# Altium integrated library NSC Video Amplifier.IntLib: 19 symbols
Pins are listed as number, name and electrical type; pins without a type are passive.

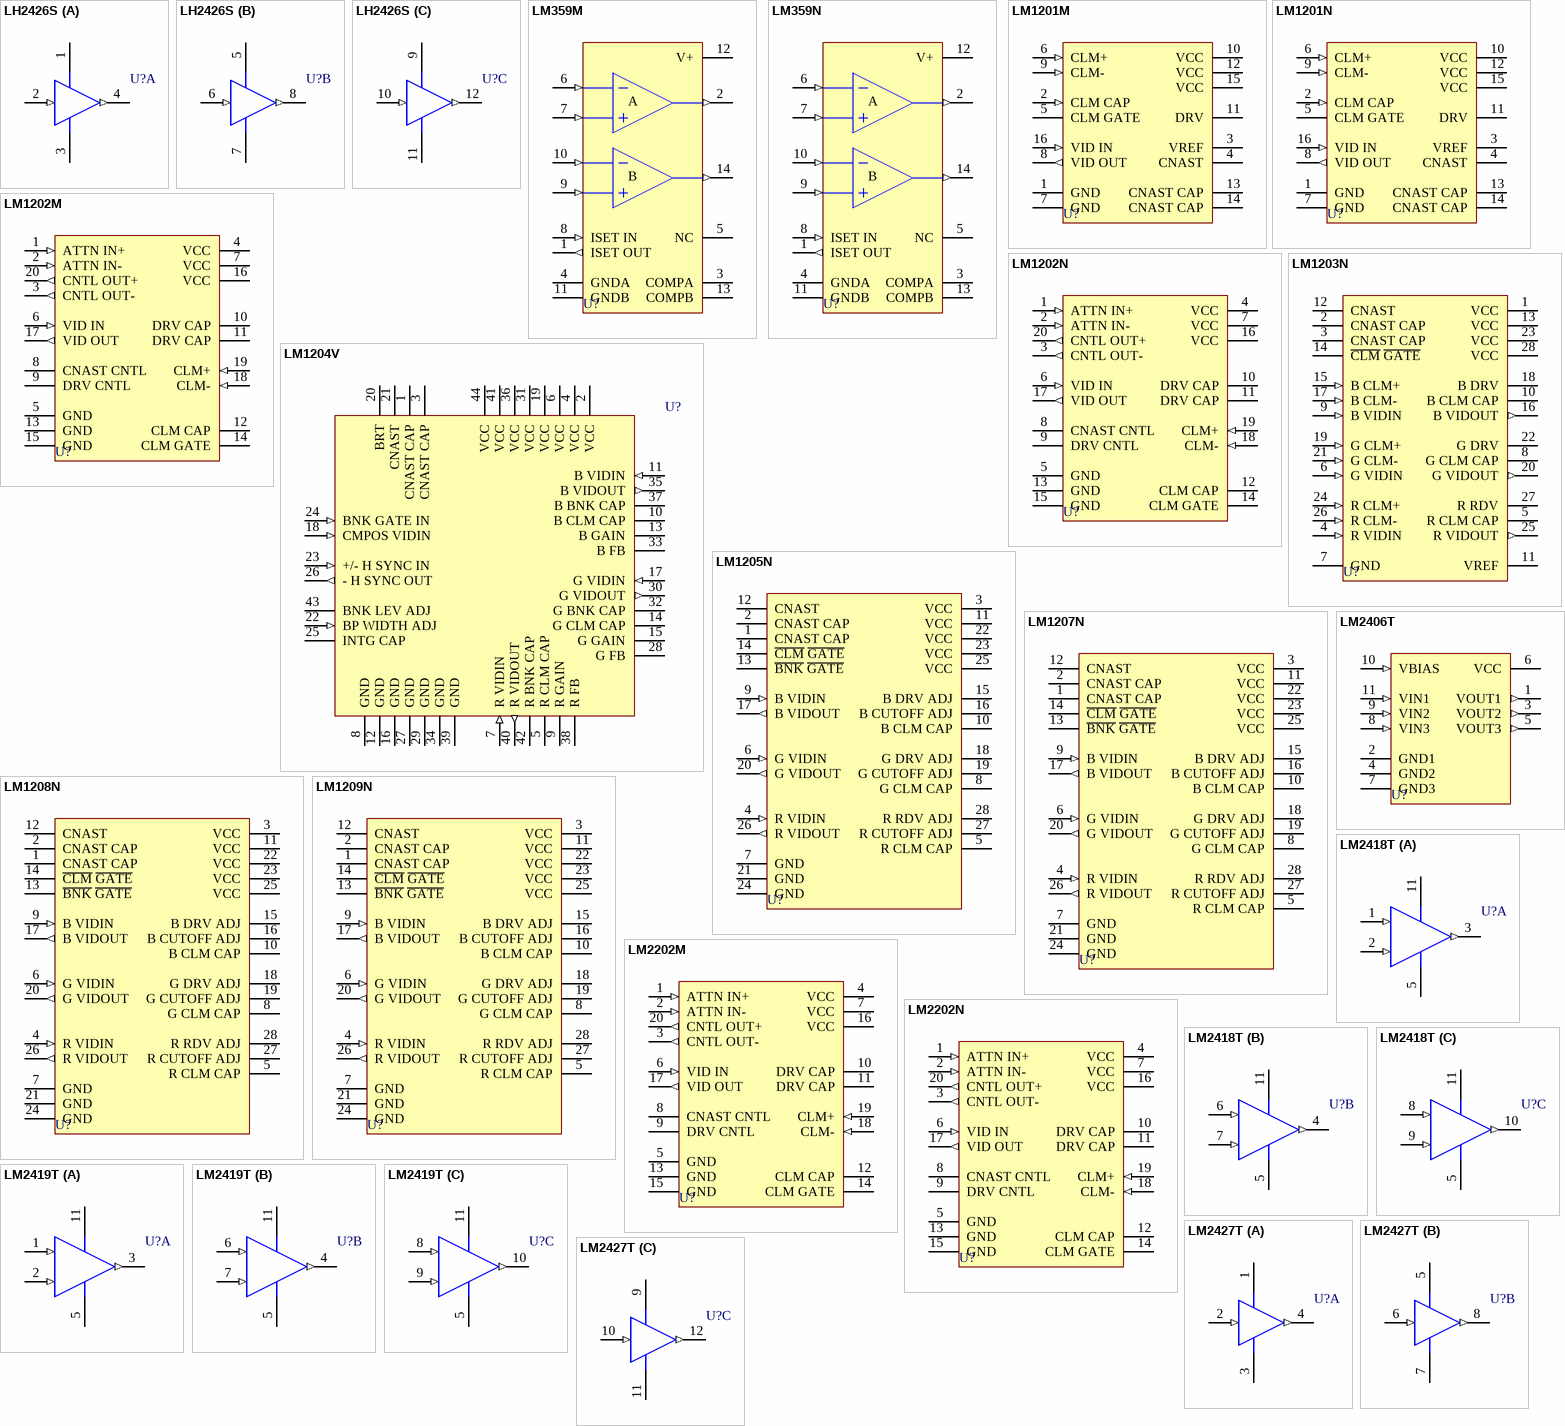
[diagram p0: symbols LH2426S to LM2427T]

## LH2426S
designator U?
Triple 80MHz CRT Driver; Published: 15-Apr-2002; DatasheetVersion: Aug-1990; PackageVersion: Aug-1995; PackageReference: HY12B; Publisher: Altium Limited; PackageDescription: TO, Thru-Hole, Vertical, Heatsink Mounted; 12 In-Line Leads; Pitch 2.54 mm; ComponentLink1Description: Manufacturer Link; ComponentLink1URL: http://www.national.com/
footprint HY12B (TO, Thru-Hole, Vertical, Heatsink Mounted; 12 In-Line Leads; Pitch 2.54 mm)
part A pins: 1 V+ (power), 2 IN (in), 3 GND (power), 4 OUT (out)
part B pins: 5 V+ (power), 6 IN (in), 7 GND (power), 8 OUT (out)
part C pins: 9 V+ (power), 10 IN (in), 11 GND (power), 12 OUT (out)

## LM359M
designator U?
Dual, High-Speed, Programmable, Current Mode (Norton) Amplifier; Note: Pin 5 is N.C.; Published: 15-Apr-2002; LatestRevisionDate: 13-Apr-2006; LatestRevisionNote: IPC-7351 Footprint Added.; DatasheetVersion: Oct-1998; PackageVersion: 2000; PackageReference: M14A; Publisher: Altium Limited; PackageDescription: 14-Pin Small Outline Integrated Circuit 1.27 mm Pitch; Code_IPC: SOIC127P600-14; ComponentLink1Description: Manufacturer Link; ComponentLink1URL: http://www.national.com/; ComponentLink2Description: Datasheet; ComponentLink2URL: http://www.national.com/ds.cgi/LM/LM359.pdf; ComponentLink3Description: URL Link1; ComponentLink3URL: http://www.national.com/pf/LM/LM359.html
footprint M14A_N (SOIC, 14-Leads, Body 8.6x3.9mm, Pitch 1.27mm, IPC Medium Density)
footprint M14A_L (SOIC, 14-Leads, Body 8.6x3.9mm, Pitch 1.27mm, IPC High Density)
footprint M14A_M (SOIC, 14-Leads, Body 8.6x3.9mm, Pitch 1.27mm, IPC Low Density)
3D model M14A (14-Pin Small Outline Integrated Circuit 1.27 mm Pitch)
pins: 1 ISET OUT (out), 2 OUT (out), 3 COMPA, 4 GNDA (power), 5 NC, 6 IN- (in), 7 IN+ (in), 8 ISET IN (in), 9 IN+ (in), 10 IN- (in), 11 GNDB (power), 12 V+ (power), 13 COMPB, 14 OUT (out)
text: A; B

## LM359N
designator U?
Dual, High-Speed, Programmable, Current Mode (Norton) Amplifier; Note: Pin 5 is N.C.; Published: 15-Apr-2002; LatestRevisionDate: 06-Jun-2005; LatestRevisionNote: Stylized 3D Model Added.; DatasheetVersion: Oct-1998; PackageVersion: 2000; PackageReference: N14A; Publisher: Altium Limited; PackageDescription: DIP; 14 Leads; Row Spacing 7.62 mm; Pitch 2.54 mm; ComponentLink1Description: Manufacturer Link; ComponentLink1URL: http://www.national.com/; ComponentLink2Description: Datasheet; ComponentLink2URL: http://www.national.com/ds.cgi/LM/LM359.pdf; ComponentLink3Description: URL Link1; ComponentLink3URL: http://www.national.com/pf/LM/LM359.html
footprint N14A (DIP; 14 Leads; Row Spacing 7.62 mm; Pitch 2.54 mm)
3D model N14A (DIP; 14 Leads; Row Spacing 7.62 mm; Pitch 2.54 mm)
pins: 1 ISET OUT (out), 2 OUT (out), 3 COMPA, 4 GNDA (power), 5 NC, 6 IN- (in), 7 IN+ (in), 8 ISET IN (in), 9 IN+ (in), 10 IN- (in), 11 GNDB (power), 12 V+ (power), 13 COMPB, 14 OUT (out)
text: A; B

## LM1201M
designator U?
Video Amplifier System; ComponentAvailability: Obsolete; Published: 15-Apr-2002; LatestRevisionDate: 13-Apr-2006; LatestRevisionNote: IPC-7351 Footprint Added.; DatasheetVersion: Jan-1995; PackageVersion: 2000; PackageReference: M16A; Publisher: Altium Limited; PackageDescription: 16-Pin Small Outline Integrated Circuit 1.27 mm Pitch; Code_IPC: SOIC127P600-16; ComponentLink1Description: Manufacturer Link; ComponentLink1URL: http://www.national.com/; ComponentLink2Description: Datasheet; ComponentLink2URL: http://www.national.com/ds.cgi/LM/LM1201.pdf; ComponentLink3Description: Discontinuation Notice; ComponentLink3URL: http://www.national.com/obs/obsolescence.txt; ComponentLink4Description: URL Link1; ComponentLink4URL: http://www.national.com/pf/LM/LM1201.html
footprint M16A_N (SOIC, 16-Leads, Body 9.9x3.9mm, Pitch 1.27mm, IPC Medium Density)
footprint M16A_L (SOIC, 16-Leads, Body 9.9x3.9mm, Pitch 1.27mm, IPC High Density)
footprint M16A_M (SOIC, 16-Leads, Body 9.9x3.9mm, Pitch 1.27mm, IPC Low Density)
3D model M16A (16-Pin Small Outline Integrated Circuit 1.27 mm Pitch)
pins: 1 GND (power), 2 CLM CAP (in), 3 VREF, 4 CNAST, 5 CLM GATE, 6 CLM+ (in), 7 GND (power), 8 VID OUT (out), 9 CLM- (in), 10 VCC (power), 11 DRV, 12 VCC (power), 13 CNAST CAP, 14 CNAST CAP, 15 VCC (power), 16 VID IN (in)

## LM1201N
designator U?
Video Amplifier System; ComponentAvailability: Obsolete; Published: 15-Apr-2002; LatestRevisionDate: 06-Jun-2005; LatestRevisionNote: Stylized 3D Model Added.; DatasheetVersion: Jan-1995; PackageVersion: 2000; PackageReference: N16E; Publisher: Altium Limited; PackageDescription: DIP; 16 Leads; Row Spacing 7.62 mm; Pitch 2.54 mm; ComponentLink1Description: Manufacturer Link; ComponentLink1URL: http://www.national.com/; ComponentLink2Description: Datasheet; ComponentLink2URL: http://www.national.com/ds.cgi/LM/LM1201.pdf; ComponentLink3Description: Discontinuation Notice; ComponentLink3URL: http://www.national.com/obs/obsolescence.txt; ComponentLink4Description: URL Link1; ComponentLink4URL: http://www.national.com/pf/LM/LM1201.html
footprint N16E (DIP; 16 Leads; Row Spacing 7.62 mm; Pitch 2.54 mm)
3D model N16E (DIP; 16 Leads; Row Spacing 7.62 mm; Pitch 2.54 mm)
pins: 1 GND (power), 2 CLM CAP (in), 3 VREF, 4 CNAST, 5 CLM GATE, 6 CLM+ (in), 7 GND (power), 8 VID OUT (out), 9 CLM- (in), 10 VCC (power), 11 DRV, 12 VCC (power), 13 CNAST CAP, 14 CNAST CAP, 15 VCC (power), 16 VID IN (in)

## LM1202M
designator U?
230MHz Video Amplifier System; Published: 15-Apr-2002; LatestRevisionDate: 13-Apr-2006; LatestRevisionNote: IPC-7351 Footprint Added.; DatasheetVersion: Dec-1995; PackageVersion: 2000; PackageReference: M20B; Publisher: Altium Limited; PackageDescription: 20-Pin Small Outline Integrated Circuit 1.27 mm Pitch; Code_JEDEC: MS-013-AC; Code_IPC: SOIC127P1030-20; ComponentLink1Description: Manufacturer Link; ComponentLink1URL: http://www.national.com/; ComponentLink2Description: Datasheet; ComponentLink2URL: http://www.national.com/ds.cgi/LM/LM1202.pdf; ComponentLink3Description: URL Link1; ComponentLink3URL: http://www.national.com/pf/LM/LM1202.html
footprint M20B_N (SOIC, 20-Leads, Body 12.8x7.5mm, Pitch 1.27mm, IPC Medium Density)
footprint M20B_L (SOIC, 20-Leads, Body 12.8x7.5mm, Pitch 1.27mm, IPC High Density)
footprint M20B_M (SOIC, 20-Leads, Body 12.8x7.5mm, Pitch 1.27mm, IPC Low Density)
3D model M20B (20-Pin Small Outline Integrated Circuit 1.27 mm Pitch)
pins: 1 ATTN IN+ (in), 2 ATTN IN- (in), 3 CNTL OUT- (out), 4 VCC (power), 5 GND (power), 6 VID IN (in), 7 VCC (power), 8 CNAST CNTL, 9 DRV CNTL, 10 DRV CAP, 11 DRV CAP, 12 CLM CAP, 13 GND (power), 14 CLM GATE, 15 GND (power), 16 VCC (power), 17 VID OUT (out), 18 CLM- (in), 19 CLM+ (in), 20 CNTL OUT+ (out)

## LM1202N
designator U?
230MHz Video Amplifier System; Published: 15-Apr-2002; LatestRevisionDate: 06-Jun-2005; LatestRevisionNote: Stylized 3D Model Added.; DatasheetVersion: Dec-1995; PackageVersion: 2000; PackageReference: N20A; Publisher: Altium Limited; PackageDescription: DIP; 20 Leads; Row Spacing 7.62 mm; Pitch 2.54 mm; Code_JEDEC: MS-001-AD; ComponentLink1Description: Manufacturer Link; ComponentLink1URL: http://www.national.com/; ComponentLink2Description: Datasheet; ComponentLink2URL: http://www.national.com/ds.cgi/LM/LM1202.pdf; ComponentLink3Description: URL Link1; ComponentLink3URL: http://www.national.com/pf/LM/LM1202.html
footprint N20A (DIP; 20 Leads; Row Spacing 7.62 mm; Pitch 2.54 mm)
3D model N20A (DIP; 20 Leads; Row Spacing 7.62 mm; Pitch 2.54 mm)
pins: 1 ATTN IN+ (in), 2 ATTN IN- (in), 3 CNTL OUT- (out), 4 VCC (power), 5 GND (power), 6 VID IN (in), 7 VCC (power), 8 CNAST CNTL, 9 DRV CNTL, 10 DRV CAP, 11 DRV CAP, 12 CLM CAP, 13 GND (power), 14 CLM GATE, 15 GND (power), 16 VCC (power), 17 VID OUT (out), 18 CLM- (in), 19 CLM+ (in), 20 CNTL OUT+ (out)

## LM1203N
designator U?
RGB Video Amplifier System; ComponentAvailability: Obsolete; Published: 15-Apr-2002; LatestRevisionDate: 06-Jun-2005; LatestRevisionNote: Stylized 3D Model Added.; DatasheetVersion: Jan-1996; PackageVersion: 2000; PackageReference: NA28F; Publisher: Altium Limited; PackageDescription: DIP; 28 Leads; Row Spacing 15.24 mm; Pitch 2.54 mm; ComponentLink1Description: Manufacturer Link; ComponentLink1URL: http://www.national.com/; ComponentLink2Description: Datasheet; ComponentLink2URL: http://www.national.com/ds.cgi/LM/LM1203.pdf; ComponentLink3Description: Discontinuation Notice; ComponentLink3URL: http://www.national.com/obs/obsolescence.txt; ComponentLink4Description: URL Link1; ComponentLink4URL: http://www.national.com/pf/LM/LM1203.html
footprint NA28F (DIP; 28 Leads; Row Spacing 15.24 mm; Pitch 2.54 mm)
3D model NA28F (DIP; 28 Leads; Row Spacing 15.24 mm; Pitch 2.54 mm)
pins: 1 VCC (power), 2 CNAST CAP, 3 CNAST CAP, 4 R VIDIN (in), 5 R CLM CAP, 6 G VIDIN (in), 7 GND (power), 8 G CLM CAP, 9 B VIDIN (in), 10 B CLM CAP, 11 VREF, 12 CNAST, 13 VCC (power), 14 ~{CLM} ~{GATE}, 15 B CLM+ (in), 16 B VIDOUT (out), 17 B CLM- (in), 18 B DRV, 19 G CLM+ (in), 20 G VIDOUT (out), 21 G CLM- (in), 22 G DRV, 23 VCC (power), 24 R CLM+ (in), 25 R VIDOUT (out), 26 R CLM- (in), 27 R RDV, 28 VCC (power)

## LM1204V
designator U?
150MHz RGB Video Amplifier System; ComponentAvailability: Obsolete; Published: 15-Apr-2002; LatestRevisionDate: 13-Apr-2006; LatestRevisionNote: IPC-7351 Footprint Added.; DatasheetVersion: Dec-1994; PackageVersion: 2000; PackageReference: V44A; Publisher: Altium Limited; PackageDescription: 44-Pin Leaded Chip Carrier 1.27 mm Pitch; Code_IPC: PLCC-44; ComponentLink1Description: Manufacturer Link; ComponentLink1URL: http://www.national.com/; ComponentLink2Description: Datasheet; ComponentLink2URL: http://www.national.com/ds.cgi/LM/LM1204.pdf; ComponentLink3Description: Discontinuation Notice; ComponentLink3URL: http://www.national.com/obs/obsolescence.txt; ComponentLink4Description: URL Link1; ComponentLink4URL: http://www.national.com/pf/LM/LM1204.html
footprint V44A_N (Leaded Chip Carrier, 44-Leads, Body 16.6x16.6mm, Pitch 1.27mm, IPC Medium Density)
footprint V44A_L (Leaded Chip Carrier, 44-Leads, Body 16.6x16.6mm, Pitch 1.27mm, IPC High Density)
footprint V44A_M (Leaded Chip Carrier, 44-Leads, Body 16.6x16.6mm, Pitch 1.27mm, IPC Low Density)
3D model LM1204-V44A (44-Pin Leaded Chip Carrier 1.27 mm Pitch)
pins: 1 CNAST CAP, 2 VCC (power), 3 CNAST CAP, 4 VCC (power), 5 R CLM CAP, 6 VCC (power), 7 R VIDIN (in), 8 GND (power), 9 R GAIN, 10 B CLM CAP, 11 B VIDIN (in), 12 GND (power), 13 B GAIN, 14 G CLM CAP, 15 G GAIN, 16 GND (power), 17 G VIDIN (in), 18 CMPOS VIDIN (in), 19 VCC (power), 20 BRT, 21 CNAST, 22 BP WIDTH ADJ (in), 23 +/- H SYNC IN (in), 24 BNK GATE IN (in), 25 INTG CAP, 26 - H SYNC OUT (out), 27 GND (power), 28 G FB, 29 GND (power), 30 G VIDOUT (out), 31 VCC (power), 32 G BNK CAP, 33 B FB, 34 GND (power), 35 B VIDOUT (out), 36 VCC (power), 37 B BNK CAP, 38 R FB, 39 GND (power), 40 R VIDOUT (out), 41 VCC (power), 42 R BNK CAP, 43 BNK LEV ADJ, 44 VCC (power)

## LM1205N
designator U?
130MHz RGB Video Amplifier System with Blanking; ComponentAvailability: Obsolete; Published: 15-Apr-2002; LatestRevisionDate: 06-Jun-2005; LatestRevisionNote: Stylized 3D Model Added.; DatasheetVersion: Jan-1996; PackageVersion: 2000; PackageReference: N28B; Publisher: Altium Limited; PackageDescription: DIP; 28 Leads; Row Spacing 15.24 mm; Pitch 2.54 mm; ComponentLink1Description: Manufacturer Link; ComponentLink1URL: http://www.national.com/; ComponentLink2Description: Datasheet; ComponentLink2URL: http://www.national.com/ds.cgi/LM/LM1205.pdf; ComponentLink3Description: Discontinuation Notice; ComponentLink3URL: http://www.national.com/obs/obsolescence.txt; ComponentLink4Description: URL Link1; ComponentLink4URL: http://www.national.com/pf/LM/LM1205.html
footprint N28B (DIP; 28 Leads; Row Spacing 15.24 mm; Pitch 2.54 mm)
3D model N28B (DIP; 28 Leads; Row Spacing 15.24 mm; Pitch 2.54 mm)
pins: 1 CNAST CAP, 2 CNAST CAP, 3 VCC (power), 4 R VIDIN (in), 5 R CLM CAP, 6 G VIDIN (in), 7 GND (power), 8 G CLM CAP, 9 B VIDIN (in), 10 B CLM CAP, 11 VCC (power), 12 CNAST, 13 ~{BNK} ~{GATE}, 14 ~{CLM} ~{GATE}, 15 B DRV ADJ, 16 B CUTOFF ADJ, 17 B VIDOUT (out), 18 G DRV ADJ, 19 G CUTOFF ADJ, 20 G VIDOUT (out), 21 GND (power), 22 VCC (power), 23 VCC (power), 24 GND (power), 25 VCC (power), 26 R VIDOUT (out), 27 R CUTOFF ADJ, 28 R RDV ADJ

## LM1207N
designator U?
85MHz RGB Video Amplifier System with Blanking; ComponentAvailability: Obsolete; Published: 15-Apr-2002; LatestRevisionDate: 06-Jun-2005; LatestRevisionNote: Stylized 3D Model Added.; DatasheetVersion: Jan-1996; PackageVersion: 2000; PackageReference: N28B; Publisher: Altium Limited; PackageDescription: DIP; 28 Leads; Row Spacing 15.24 mm; Pitch 2.54 mm; ComponentLink1Description: Manufacturer Link; ComponentLink1URL: http://www.national.com/; ComponentLink2Description: Datasheet; ComponentLink2URL: http://www.national.com/ds.cgi/LM/LM1205.pdf; ComponentLink3Description: Discontinuation Notice; ComponentLink3URL: http://www.national.com/obs/obsolescence.txt; ComponentLink4Description: URL Link1; ComponentLink4URL: http://www.national.com/pf/LM/LM1207.html
footprint N28B (DIP; 28 Leads; Row Spacing 15.24 mm; Pitch 2.54 mm)
3D model N28B (DIP; 28 Leads; Row Spacing 15.24 mm; Pitch 2.54 mm)
pins: 1 CNAST CAP, 2 CNAST CAP, 3 VCC (power), 4 R VIDIN (in), 5 R CLM CAP, 6 G VIDIN (in), 7 GND (power), 8 G CLM CAP, 9 B VIDIN (in), 10 B CLM CAP, 11 VCC (power), 12 CNAST, 13 ~{BNK} ~{GATE}, 14 ~{CLM} ~{GATE}, 15 B DRV ADJ, 16 B CUTOFF ADJ, 17 B VIDOUT (out), 18 G DRV ADJ, 19 G CUTOFF ADJ, 20 G VIDOUT (out), 21 GND (power), 22 VCC (power), 23 VCC (power), 24 GND (power), 25 VCC (power), 26 R VIDOUT (out), 27 R CUTOFF ADJ, 28 R RDV ADJ

## LM1208N
designator U?
130MHz RGB Video Amplifier System with Blanking; ComponentAvailability: Obsolete; Published: 15-Apr-2002; LatestRevisionDate: 06-Jun-2005; LatestRevisionNote: Stylized 3D Model Added.; DatasheetVersion: Jan-1996; PackageVersion: 2000; PackageReference: N28B; Publisher: Altium Limited; PackageDescription: DIP; 28 Leads; Row Spacing 15.24 mm; Pitch 2.54 mm; ComponentLink1Description: Manufacturer Link; ComponentLink1URL: http://www.national.com/; ComponentLink2Description: Datasheet; ComponentLink2URL: http://www.national.com/ds.cgi/LM/LM1208.pdf; ComponentLink3Description: Discontinuation Notice; ComponentLink3URL: http://www.national.com/obs/obsolescence.txt; ComponentLink4Description: URL Link1; ComponentLink4URL: http://www.national.com/pf/LM/LM1208.html
footprint N28B (DIP; 28 Leads; Row Spacing 15.24 mm; Pitch 2.54 mm)
3D model N28B (DIP; 28 Leads; Row Spacing 15.24 mm; Pitch 2.54 mm)
pins: 1 CNAST CAP, 2 CNAST CAP, 3 VCC (power), 4 R VIDIN (in), 5 R CLM CAP, 6 G VIDIN (in), 7 GND (power), 8 G CLM CAP, 9 B VIDIN (in), 10 B CLM CAP, 11 VCC (power), 12 CNAST, 13 ~{BNK} ~{GATE}, 14 ~{CLM} ~{GATE}, 15 B DRV ADJ, 16 B CUTOFF ADJ, 17 B VIDOUT (out), 18 G DRV ADJ, 19 G CUTOFF ADJ, 20 G VIDOUT (out), 21 GND (power), 22 VCC (power), 23 VCC (power), 24 GND (power), 25 VCC (power), 26 R VIDOUT (out), 27 R CUTOFF ADJ, 28 R RDV ADJ

## LM1209N
designator U?
100MHz RGB Video Amplifier System with Blanking; ComponentAvailability: Obsolete; Published: 15-Apr-2002; LatestRevisionDate: 06-Jun-2005; LatestRevisionNote: Stylized 3D Model Added.; DatasheetVersion: Jan-1996; PackageVersion: 2000; PackageReference: N28B; Publisher: Altium Limited; PackageDescription: DIP; 28 Leads; Row Spacing 15.24 mm; Pitch 2.54 mm; ComponentLink1Description: Manufacturer Link; ComponentLink1URL: http://www.national.com/; ComponentLink2Description: Discontinuation Notice; ComponentLink2URL: http://www.national.com/obs/obsolescence.txt
footprint N28B (DIP; 28 Leads; Row Spacing 15.24 mm; Pitch 2.54 mm)
3D model N28B (DIP; 28 Leads; Row Spacing 15.24 mm; Pitch 2.54 mm)
pins: 1 CNAST CAP, 2 CNAST CAP, 3 VCC (power), 4 R VIDIN (in), 5 R CLM CAP, 6 G VIDIN (in), 7 GND (power), 8 G CLM CAP, 9 B VIDIN (in), 10 B CLM CAP, 11 VCC (power), 12 CNAST, 13 ~{BNK} ~{GATE}, 14 ~{CLM} ~{GATE}, 15 B DRV ADJ, 16 B CUTOFF ADJ, 17 B VIDOUT (out), 18 G DRV ADJ, 19 G CUTOFF ADJ, 20 G VIDOUT (out), 21 GND (power), 22 VCC (power), 23 VCC (power), 24 GND (power), 25 VCC (power), 26 R VIDOUT (out), 27 R CUTOFF ADJ, 28 R RDV ADJ

## LM2202M
designator U?
230MHz Video Amplifier System; ComponentAvailability: Obsolete; Published: 15-Apr-2002; LatestRevisionDate: 13-Apr-2006; LatestRevisionNote: IPC-7351 Footprint Added.; DatasheetVersion: Apr-1999; PackageVersion: 2000; PackageReference: M20B; Publisher: Altium Limited; PackageDescription: 20-Pin Small Outline Integrated Circuit 1.27 mm Pitch; Code_JEDEC: MS-013-AC; Code_IPC: SOIC127P1030-20; ComponentLink1Description: Manufacturer Link; ComponentLink1URL: http://www.national.com/; ComponentLink2Description: Datasheet; ComponentLink2URL: http://www.national.com/ds.cgi/LM/LM2202.pdf; ComponentLink3Description: Discontinuation Notice; ComponentLink3URL: http://www.national.com/obs/obsolescence.txt; ComponentLink4Description: URL Link1; ComponentLink4URL: http://www.national.com/pf/LM/LM2202.html
footprint M20B_N (SOIC, 20-Leads, Body 12.8x7.5mm, Pitch 1.27mm, IPC Medium Density)
footprint M20B_L (SOIC, 20-Leads, Body 12.8x7.5mm, Pitch 1.27mm, IPC High Density)
footprint M20B_M (SOIC, 20-Leads, Body 12.8x7.5mm, Pitch 1.27mm, IPC Low Density)
3D model M20B (20-Pin Small Outline Integrated Circuit 1.27 mm Pitch)
pins: 1 ATTN IN+ (in), 2 ATTN IN- (in), 3 CNTL OUT- (out), 4 VCC (power), 5 GND (power), 6 VID IN (in), 7 VCC (power), 8 CNAST CNTL, 9 DRV CNTL, 10 DRV CAP, 11 DRV CAP, 12 CLM CAP, 13 GND (power), 14 CLM GATE, 15 GND (power), 16 VCC (power), 17 VID OUT (out), 18 CLM- (in), 19 CLM+ (in), 20 CNTL OUT+ (out)

## LM2202N
designator U?
230MHz Video Amplifier System; ComponentAvailability: Obsolete; Published: 15-Apr-2002; LatestRevisionDate: 06-Jun-2005; LatestRevisionNote: Stylized 3D Model Added.; DatasheetVersion: Apr-1999; PackageVersion: 2000; PackageReference: N20A; Publisher: Altium Limited; PackageDescription: DIP; 20 Leads; Row Spacing 7.62 mm; Pitch 2.54 mm; Code_JEDEC: MS-001-AD; ComponentLink1Description: Manufacturer Link; ComponentLink1URL: http://www.national.com/; ComponentLink2Description: Datasheet; ComponentLink2URL: http://www.national.com/ds.cgi/LM/LM2202.pdf; ComponentLink3Description: Discontinuation Notice; ComponentLink3URL: http://www.national.com/obs/obsolescence.txt; ComponentLink4Description: URL Link1; ComponentLink4URL: http://www.national.com/pf/LM/LM2202.html
footprint N20A (DIP; 20 Leads; Row Spacing 7.62 mm; Pitch 2.54 mm)
3D model N20A (DIP; 20 Leads; Row Spacing 7.62 mm; Pitch 2.54 mm)
pins: 1 ATTN IN+ (in), 2 ATTN IN- (in), 3 CNTL OUT- (out), 4 VCC (power), 5 GND (power), 6 VID IN (in), 7 VCC (power), 8 CNAST CNTL, 9 DRV CNTL, 10 DRV CAP, 11 DRV CAP, 12 CLM CAP, 13 GND (power), 14 CLM GATE, 15 GND (power), 16 VCC (power), 17 VID OUT (out), 18 CLM- (in), 19 CLM+ (in), 20 CNTL OUT+ (out)

## LM2406T
designator U?
Monolithic Triple 9ns CRT Driver; ComponentAvailability: Obsolete; Published: 15-Apr-2002; DatasheetVersion: Jun-1995; PackageVersion: 2000; PackageReference: TA11B; Publisher: Altium Limited; PackageDescription: TO, Thru-Hole, Vertical, Heatsink Mounted; 11 Bent Staggered Leads; Pitch 1.7 mm; ComponentLink1Description: Manufacturer Link; ComponentLink1URL: http://www.national.com/; ComponentLink2Description: Datasheet; ComponentLink2URL: http://www.national.com/ds.cgi/LM/LM2406.pdf; ComponentLink3Description: Discontinuation Notice; ComponentLink3URL: http://www.national.com/obs/obsolescence.txt; ComponentLink4Description: URL Link1; ComponentLink4URL: http://www.national.com/pf/LM/LM2406.html
footprint TA11B (TO, Thru-Hole, Vertical, Heatsink Mounted; 11 Bent Staggered Leads; Pitch 1.7 mm)
pins: 1 VOUT1 (out), 2 GND1 (power), 3 VOUT2 (out), 4 GND2 (power), 5 VOUT3 (out), 6 VCC (power), 7 GND3 (power), 8 VIN3 (in), 9 VIN2 (in), 10 VBIAS (in), 11 VIN1 (in)

## LM2418T
designator U?
Triple 30MHz CRT Driver; ComponentAvailability: Obsolete; Published: 15-Apr-2002; DatasheetVersion: 1995; PackageVersion: 2000; PackageReference: TA11B; Publisher: Altium Limited; PackageDescription: TO, Thru-Hole, Vertical, Heatsink Mounted; 11 Bent Staggered Leads; Pitch 1.7 mm; ComponentLink1Description: Manufacturer Link; ComponentLink1URL: http://www.national.com/; ComponentLink2Description: Discontinuation Notice; ComponentLink2URL: http://www.national.com/obs/obsolescence.txt
footprint TA11B (TO, Thru-Hole, Vertical, Heatsink Mounted; 11 Bent Staggered Leads; Pitch 1.7 mm)
pins on every part: 5 V- (power), 11 V+ (power)
part A pins: 1 VIN (in), 2 VBIAS (in), 3 OUT (out)
part B pins: 4 OUT (out), 6 VIN (in), 7 VBIAS (in)
part C pins: 8 VIN (in), 9 VBIAS (in), 10 OUT (out)

## LM2419T
designator U?
Triple 65MHz CRT Driver; ComponentAvailability: Obsolete; Published: 15-Apr-2002; DatasheetVersion: Dec-1994; PackageVersion: 2000; PackageReference: TA11B; Publisher: Altium Limited; PackageDescription: TO, Thru-Hole, Vertical, Heatsink Mounted; 11 Bent Staggered Leads; Pitch 1.7 mm; ComponentLink1Description: Manufacturer Link; ComponentLink1URL: http://www.national.com/; ComponentLink2Description: Datasheet; ComponentLink2URL: http://www.national.com/ds.cgi/LM/LM2419.pdf; ComponentLink3Description: Discontinuation Notice; ComponentLink3URL: http://www.national.com/obs/obsolescence.txt; ComponentLink4Description: URL Link1; ComponentLink4URL: http://www.national.com/pf/LM/LM2419.html
footprint TA11B (TO, Thru-Hole, Vertical, Heatsink Mounted; 11 Bent Staggered Leads; Pitch 1.7 mm)
pins on every part: 5 V- (power), 11 V+ (power)
part A pins: 1 VIN (in), 2 VBIAS (in), 3 OUT (out)
part B pins: 4 OUT (out), 6 VIN (in), 7 VBIAS (in)
part C pins: 8 VIN (in), 9 VBIAS (in), 10 OUT (out)

## LM2427T
designator U?
Triple 80MHz CRT Driver; ComponentAvailability: Obsolete; Published: 15-Apr-2002; DatasheetVersion: Apr-1995; PackageVersion: Apr-1995; PackageReference: TA12A; Publisher: Altium Limited; PackageDescription: TO, Thru-Hole, Vertical, Heatsink Mounted; 12 In-Line Leads; Pitch 2.54 mm; ComponentLink1Description: Manufacturer Link; ComponentLink1URL: http://www.national.com/; ComponentLink2Description: Datasheet; ComponentLink2URL: http://www.national.com/ds.cgi/LM/LM2427.pdf; ComponentLink3Description: Discontinuation Notice; ComponentLink3URL: http://www.national.com/obs/obsolescence.txt; ComponentLink4Description: URL Link1; ComponentLink4URL: http://www.national.com/pf/LM/LM2427.html
footprint TA12A (TO, Thru-Hole, Vertical, Heatsink Mounted; 12 In-Line Leads; Pitch 2.54 mm)
part A pins: 1 V+ (power), 2 IN (in), 3 GND (power), 4 OUT (out)
part B pins: 5 V+ (power), 6 IN (in), 7 GND (power), 8 OUT (out)
part C pins: 9 V+ (power), 10 IN (in), 11 GND (power), 12 OUT (out)